# Altium footprint library PrISUm-Connectors.PcbLib: 40 footprints (part 3 of 3)
Each footprint in its own frame and in the unit in brackets; x right, y up, seen from the top. Pads: shape width x height; smd on the part's side, far side on the other; paste and mask are expansions set on the pad; w line width, h text height; cw(c..) or ccw(c..) is an arc to the next point about the centre after c.
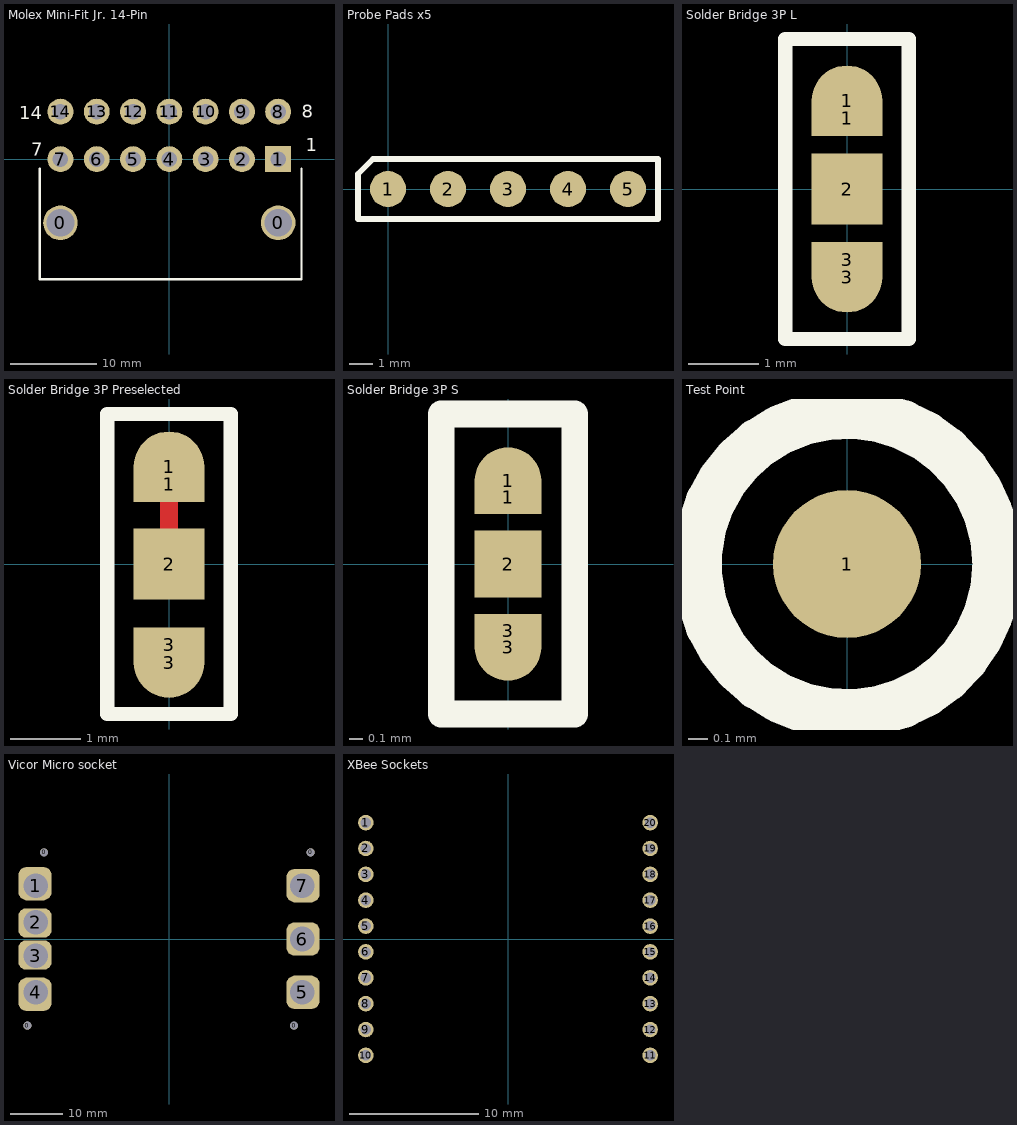
[diagram p2: the footprints below, top view; thin cyan lines are the x and y axes]

## Molex Mini-Fit Jr. 14-Pin [mm] "14-Pin Moles Mini-Fit Jr. Right Angle Header with PCB Flange"
pads (16):
  round 4 hole 3.2: 0(-12.6,-7.366) 0(12.6,-7.366)
  rect 3x3 hole 1.8: 1(12.6,0)
  round 3 hole 1.8: 2(8.4,0) 3(4.2,0) 4(0,0) 5(-4.2,0) 6(-8.4,0) 7(-12.6,0) 8(12.6,5.5) 9(8.4,5.5) 10(4.2,5.5) 11(0,5.5) 12(-4.2,5.5) 13(-8.4,5.5) 14(-12.6,5.5)
Top Overlay:
  lines w0.254: -15,-1.1 -15,-7.3 -15,-13.9 15.3,-13.9 15.3,-7.3 15.3,-1.1
  text "1" at 15.8,0.9 h1.52
  text "14" at -17.4,4.6 h1.52
  text "8" at 15.3,4.8 h1.52
  text "7" at -16,0.4 h1.52
3D body "039300140.stp": height 11.4, standoff -3.6, extent -15.3,-14 15.7,5.935

## Probe Pads x5 [mil]
pads (5):
  round 60 smd: 1(0,0) 2(100,0) 3(200,0) 4(300,0) 5(400,0)
Top Overlay:
  lines w10: -50,-50 450,-50 450,50 -25,50 -50,25 -50,-50

## Solder Bridge 3P L [mm] "Solder Bridge, 3 position, Large"
height 0.5
pads (5):
  rect 1x0.5 smd mask+0.064: 1(0,1) 3(0,-1)
  round 1 smd mask+0.064: 1(0,1.25) 3(0,-1.25)
  rect 1x1 smd mask+0.064: 2(0,0)
Top Overlay:
  lines w0.2: -0.875,-2.125 -0.875,2.125 0.875,2.125 0.875,-2.125 -0.875,-2.125

## Solder Bridge 3P Preselected [mm] "Solder Bridge, 3 position, Large"
height 0.5
pads (5):
  rect 1x0.5 smd mask+0.064: 1(0,1.127) 3(0,-1.147)
  round 1 smd mask+0.064: 1(0,1.377) 3(0,-1.397)
  rect 1x1 smd mask+0.064: 2(0,0)
Top Layer:
  lines w0.254: 0,0 0,1.25
Top Overlay:
  lines w0.2: -0.875,-2.125 0.875,-2.125 0.875,2.125 -0.875,2.125 -0.875,-2.125

## Solder Bridge 3P S [mm] "Solder Bridge, 3 position, Small"
height 0.25
pads (5):
  rect 0.5x0.25 smd mask+0.064: 1(0,0.5) 3(0,-0.5)
  round 0.5 smd mask+0.064: 1(0,0.625) 3(0,-0.625)
  rect 0.5x0.5 smd mask+0.064: 2(0,0)
Top Overlay:
  lines w0.2: -0.5,-1.125 -0.5,1.125 0.5,1.125 0.5,-1.125 -0.5,-1.125

## Test Point [mil] "Round Pad for Probing"
pads (1):
  round 30 smd: 1(0,0)
Top Overlay:
  circle w10: c0,0 r30.41

## Vicor Micro socket [mil] "Vicor Micro DC-DC socket, Long Pins"
height 70
pads (11):
  round 60 hole 60: 0(-1062.5,-650) 0(-937.5,650) 0(937.5,-650) 0(1062.5,650)
  rrect50% 250x250 hole 185 copper offset -5,15: 1(-1000,400)
  rrect50% 250x220 hole 185 copper offset -5,-5: 2(-1000,125)
  rrect50% 250x220 hole 185 copper offset -5,5: 3(-1000,-125)
  rrect50% 250x250 hole 185 copper offset -5,-15: 4(-1000,-400)
  rrect50% 250x250 hole 185 copper offset 5,0: 5(1000,-400) 6(1000,0) 7(1000,400)
3D body "Vicor Micro socket.stp": height 70.08, standoff -142.13, extent -1098,-498.23 1098.07,498.23

## XBee Sockets [mm] "Through Hole XBee Sockets,10 pin, 2mm Pitch, 22mm Row Spacing"
height 0.113
pads (20):
  round 1.2 hole 0.8 mask+0.064: 1(-11,9) 2(-11,7) 3(-11,5) 4(-11,3) 5(-11,1) 6(-11,-1) 7(-11,-3) 8(-11,-5) 9(-11,-7) 10(-11,-9) 11(11,-9) 12(11,-7) 13(11,-5) 14(11,-3) 15(11,-1) 16(11,1) 17(11,3) 18(11,5) 19(11,7) 20(11,9)
3D body "XBee Socket.stp": height 4.3, standoff -2.7, extent 9.7,-10.25 12.2,10.25
3D body "XBee Socket.stp": height 4.3, standoff -2.7, extent -12.2,-10.25 -9.7,10.25